# Altium integrated library AT25SF128A-SHB-T.IntLib: 1 symbol
Pins are listed as number, name and electrical type; pins without a type are passive.

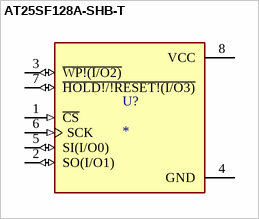
[diagram p0: symbol AT25SF128A-SHB-T]

## AT25SF128A-SHB-T
designator U?
128 Mbit Serial NOR Flash Memory with Dual and Quad I/O Support; MF: Dialog Semiconductor; MP: AT25SF128A-SHB-T; Value: *; Purchase-URL: https://pricing.snapeda.com/search/part/AT25SF128A-SHB-T/?ref=eda; Package: SOIC-8 Dialog Semiconductor; Check_prices: https://www.snapeda.com/parts/AT25SF128A-SHB-T/Dialog%20Semiconductor/view-part/5488499/?ref=eda; SnapEDA_Link: https://www.snapeda.com/parts/AT25SF128A-SHB-T/Dialog%20Semiconductor/view-part/5488499/?ref=snap; Price: None; Availability: Warning
footprint SOIC127P790X216-8N
pins: 1 ~{CS} (in), 2 SO(I/O1) (io), 3 ~{WP!(I/O2)} (io), 4 GND (power), 5 SI(I/O0) (io), 6 SCK (in), 7 ~{HOLD!/!RESET!(I/O3)} (io), 8 VCC (power)